# Altium footprint library Footprint.PcbLib: 1 footprints
Each footprint in its own frame and in the unit in brackets; x right, y up, seen from the top. Pads: shape width x height; smd on the part's side, far side on the other; paste and mask are expansions set on the pad; w line width, h text height; cw(c..) or ccw(c..) is an arc to the next point about the centre after c.
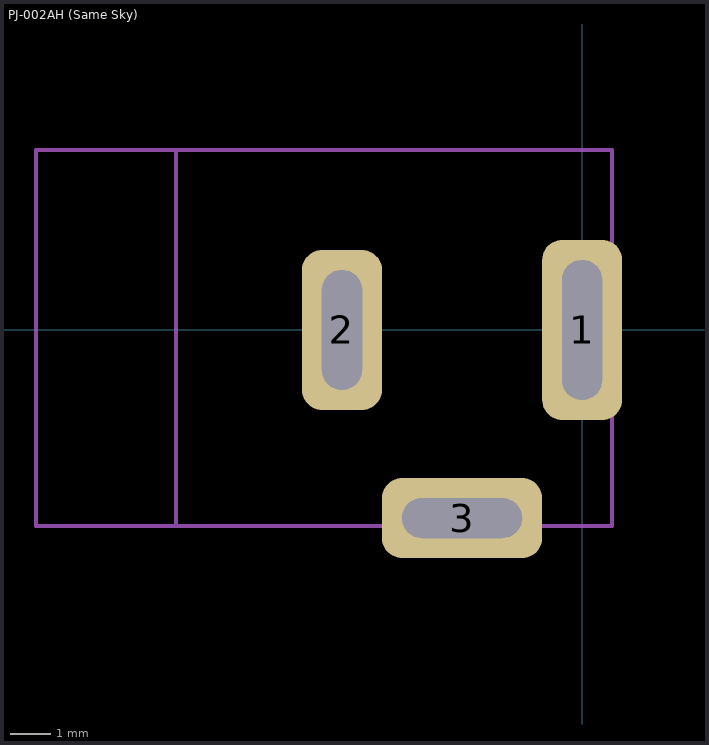
[diagram p0: the footprint, top view; thin cyan lines are the x and y axes]

## PJ-002AH (Same Sky) [mm] "Connector, 3-Leads, Body 14.40x9.00 mm"
height 11
pads (3):
  rrect50% 2x4.5 hole 1 slot 3.5 at 90 deg mask+0.05: 1(0,0)
  rrect50% 2x4 hole 1 slot 3 at 90 deg mask+0.05: 2(-6,0)
  rrect50% 4x2 hole 1 slot 3 at 0 deg mask+0.05: 3(-3,-4.7)
Top Pattern:
  lines w0.1: -10.15,-4.9 -10.15,4.5 ; -13.65,-4.9 -13.65,4.5 0.75,4.5 0.75,-4.9 -13.65,-4.9
  text ".Designator" at -13.7,5.1 h1.52
3D body "PJ-002AH.step": height 11, standoff -3.5, extent -13.65,-4.9 0.75,4.5